# Altium footprint library 20021321.PcbLib: 3 footprints
Each footprint in its own frame and in the unit in brackets; x right, y up, seen from the top. Pads: shape width x height; smd on the part's side, far side on the other; paste and mask are expansions set on the pad; w line width, h text height; cw(c..) or ccw(c..) is an arc to the next point about the centre after c.
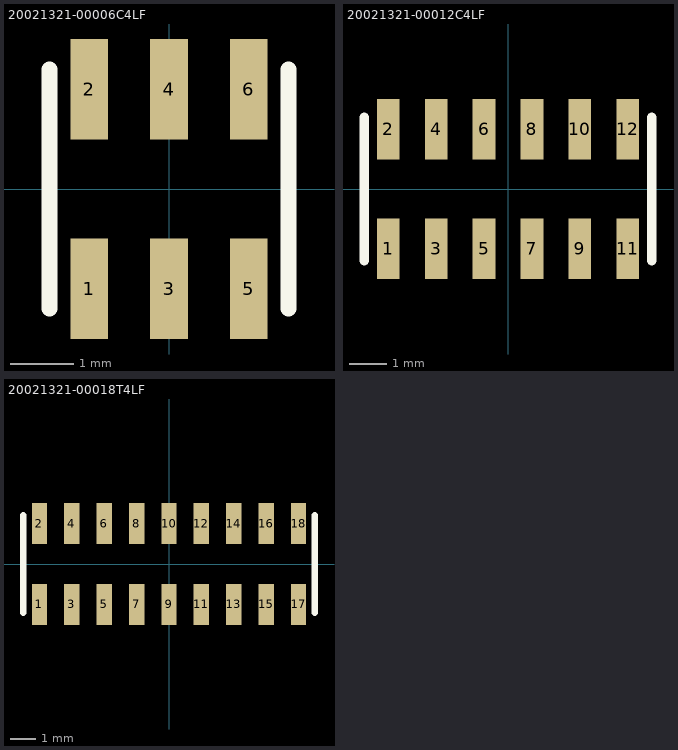
[diagram p0: the footprints below, top view; thin cyan lines are the x and y axes]

## 20021321-00006C4LF [mm]
pads (6):
  rect 0.6x1.6 smd: 1(-1.27,-1.587) 2(-1.27,1.587) 3(0,-1.587) 4(0,1.587) 5(1.27,-1.587) 6(1.27,1.587)
Top Overlay:
  lines w0.254: -1.905,-1.905 -1.905,1.905 ; 1.905,-1.905 1.905,1.905
3D body: height 4.5, standoff 0, extent -2.135,-2.25 2.135,2.25

## 20021321-00012C4LF [mm]
pads (12):
  rect 0.6x1.6 smd: 1(-3.175,-1.587) 2(-3.175,1.587) 3(-1.905,-1.587) 4(-1.905,1.587) 5(-0.635,-1.587) 6(-0.635,1.587) 7(0.635,-1.587) 8(0.635,1.587) 9(1.905,-1.587) 10(1.905,1.587) 11(3.175,-1.587) 12(3.175,1.587)
Top Overlay:
  lines w0.254: -3.81,-1.905 -3.81,1.905 ; 3.81,-1.905 3.81,1.905
3D body: height 4.5, standoff 0, extent -4.04,-2.25 4.04,2.25

## 20021321-00018T4LF [mm]
pads (18):
  rect 0.6x1.6 smd: 1(-5.08,-1.587) 2(-5.08,1.587) 3(-3.81,-1.587) 4(-3.81,1.587) 5(-2.54,-1.587) 6(-2.54,1.587) 7(-1.27,-1.587) 8(-1.27,1.587) 9(0,-1.587) 10(0,1.587) 11(1.27,-1.587) 12(1.27,1.587) 13(2.54,-1.587) 14(2.54,1.587) 15(3.81,-1.587) 16(3.81,1.587) 17(5.08,-1.587) 18(5.08,1.587)
Top Overlay:
  lines w0.254: -5.715,-1.905 -5.715,1.905 ; 5.715,-1.905 5.715,1.905
3D body: height 4.5, standoff 0, extent -5.945,-2.25 5.945,2.25